# Altium schematic symbol library LX1-Fans.SchLib: 2 symbols
Pins are listed as number, name and electrical type; pins without a type are passive.

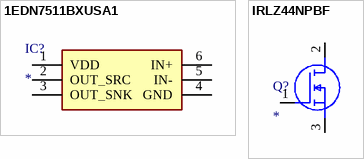
[diagram p0: symbols 1EDN7511BXUSA1 to IRLZ44NPBF]

## 1EDN7511BXUSA1
designator IC?
Integrated Circuit; Manufacturer_Name: Infineon; Manufacturer_Part_Number: 1EDN7511BXUSA1; Datasheet Link: https://componentsearchengine.com/Datasheets/1/1EDN7511BXUSA1.pdf; Height: 1.45mm; Mouser Part Number: 726-1EDN7511BXUSA1; Mouser Price/Stock: https://www.mouser.com/Search/Refine.aspx?Keyword=726-1EDN7511BXUSA1
footprint SOT95P280X145-6N
pins: 1 VDD, 2 OUT_SRC, 3 OUT_SNK, 4 GND, 5 IN-, 6 IN+

## IRLZ44NPBF
designator Q?
MOSFET (N-Channel); Manufacturer_Name: Infineon; Manufacturer_Part_Number: IRLZ44NPBF; Allied_Number: 70017121; Datasheet Link: https://www.mouser.co.uk/datasheet/2/196/irlz44npbf-1228134.pdf; Height: 4.69mm; Mouser Part Number: 942-IRLZ44NPBF; Mouser Price/Stock: https://www.mouser.com/Search/Refine.aspx?Keyword=942-IRLZ44NPBF; RS Part Number: 5410086P; RS Price/Stock: http://uk.rs-online.com/web/p/products/5410086P; Allied Price/Stock: https://www.alliedelec.com/infineon-irlz44npbf/70017121/
footprint TO254P469X1042X1967-3P
pins: 1 G, 2 D, 3 S